# Altium footprint library common standard footprint.PcbLib: 18 footprints (part 1 of 2)
Each footprint in its own frame and in the unit in brackets; x right, y up, seen from the top. Pads: shape width x height; smd on the part's side, far side on the other; paste and mask are expansions set on the pad; w line width, h text height; cw(c..) or ccw(c..) is an arc to the next point about the centre after c.
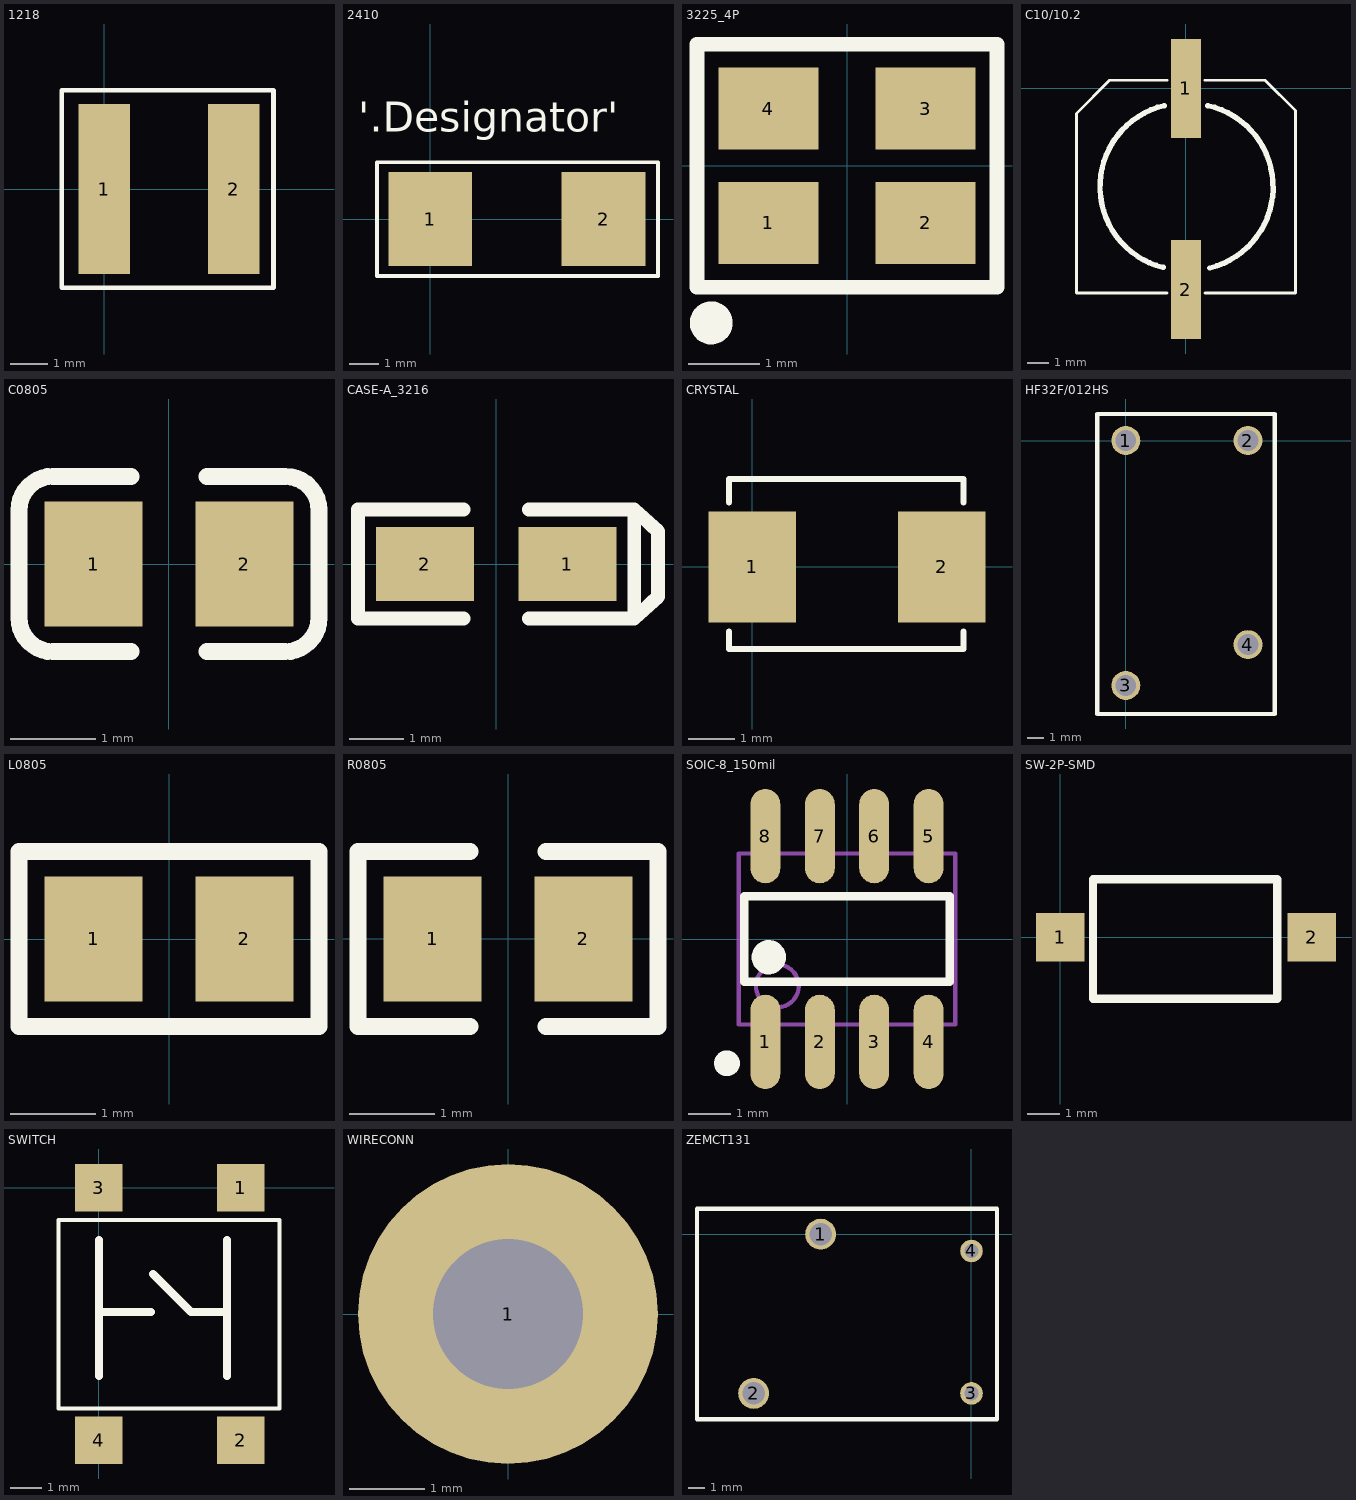
[diagram p0: the footprints below, top view; thin cyan lines are the x and y axes]

## 1218 [mm]
pads (2):
  rect 1.4x4.6 smd: 1(0,0) 2(3.5,0)
Top Overlay:
  lines w0.127: -1.143,-2.667 -1.143,2.667 4.572,2.667 4.572,-2.667 -1.143,-2.667

## 2410 [mm] "通常用于保险丝"
height 2.16
pads (2):
  rect 2.8x3.15 smd: 1(0,0) 2(5.8,0)
Top Overlay:
  lines w0.127: -1.778,-1.905 7.62,-1.905 7.62,1.905 -1.778,1.905 -1.778,-1.905
  text "'.Designator'" at -2.413,2.921 h1

## 3225_4P [mm] "晶振"
pads (4):
  rect 1.4x1.15 smd: 1(-1.1,-0.8) 2(1.1,-0.8) 3(1.1,0.8) 4(-1.1,0.8)
Top Overlay:
  circle w0.3: c-1.9,-2.2 r0.15
  lines w0.203: -2.1,-1.7 -2.1,1.7 2.1,1.7 2.1,-1.7 -2.1,-1.7
3D body "User Library-3225-1.STEP": height 0.61, standoff 0, extent -1.6,-1.25 1.6,1.25

## C6.3/5.4 [mm]

## C10/10.2 [mm] "贴片电解电容"
pads (2):
  rect 1.4x4.6 smd: 1(0,0) 2(0,-9.363)
Top Overlay:
  lines w0.127: -0.889,-9.525 -5.1,-9.525 -5.1,-1.163 -3.556,0.381 -0.889,0.381 ; 0.889,-9.525 5.1,-9.525 5.1,-1.036 3.683,0.381 0.889,0.381
  lines w0.254: -1.067,-8.333 cw(c-0.127,-4.572) -1.008,-0.796 ; 1.016,-0.796 cw(c0.168,-4.588) 1.111,-8.358

## C0805 [mm]
pads (2):
  rect 1.16x1.47 smd: 1(-0.89,0) 2(0.89,0)
Top Overlay:
  lines w0.2: -0.45,-1.035 -1.37,-1.035 cw(c-1.37,-0.635) -1.77,-0.635 -1.77,0.635 cw(c-1.37,0.635) -1.37,1.035 -0.45,1.035 ; 0.45,-1.035 1.37,-1.035 ccw(c1.37,-0.635) 1.77,-0.635 1.77,0.635 ccw(c1.37,0.635) 1.37,1.035 0.45,1.035
3D body "User Library-0805 SMD Capacitor.STEP": height 0.77, standoff -0.01, extent -0.999,-0.625 1.001,0.625

## CASE-A_3216 [mm] "钽电容"
pads (2):
  rect 1.8x1.35 smd: 1(1.31,0) 2(-1.31,0)
Top Overlay:
  lines w0.254: -0.6,-1.002 -2.537,-1.002 -2.537,1.002 -0.6,1.002 ; 0.6,-1.002 2.537,-1.002 ; 0.6,1.002 2.537,1.002 ; 2.537,-1.002 2.537,1.002 ; 2.537,-1.002 2.973,-0.6 2.973,0.6 2.537,1.002
3D body "User Library-AVX_ACASE.STEP": height 1.71, standoff 0, extent -1.7,-0.84 1.7,0.84

## CRYSTAL [mm] "5x3.2x1.2mm"
pads (2):
  rect 1.9x2.4 smd: 1(0,0) 2(4.1,0)
Top Overlay:
  lines w0.127: -0.508,-1.397 -0.508,-1.778 4.572,-1.778 4.572,-1.397 ; -0.508,1.397 -0.508,1.905 4.572,1.905 4.572,1.397

## HF32F/012HS [mm] "RELAY"
pads (4):
  round 1.8 hole 1.3: 1(0,0) 2(7.6,0) 3(0,-15.24) 4(7.6,-12.7)
Top Overlay:
  lines w0.254: -1.778,-17.018 -1.778,1.651 9.271,1.651 9.271,-17.018 -1.778,-17.018

## L0805 [mm]
pads (2):
  rect 1.16x1.47 smd: 1(-0.89,0) 2(0.89,0)
Top Overlay:
  lines w0.2: -1.77,-1.035 1.77,-1.035 1.77,1.035 -1.77,1.035 -1.77,-1.035
3D body "L0805.STEP": height 0.6, standoff -0.02, extent -1.022,-0.637 1.028,0.638

## R0805 [mm]
pads (2):
  rect 1.16x1.47 smd: 1(-0.89,0) 2(0.89,0)
Top Overlay:
  lines w0.2: -0.45,-1.035 -1.77,-1.035 -1.77,1.035 -0.45,1.035 ; 0.45,-1.035 1.77,-1.035 1.77,1.035 0.45,1.035
3D body "User Library-R_0805.STEP": height 0.49, standoff -0.01, extent -0.997,-0.625 1.003,0.625

## SOIC-8_150mil [mm]
pads (8):
  oval 0.7x2.2 smd: 1(-1.905,-2.4) 2(-0.635,-2.4) 3(0.635,-2.4) 4(1.905,-2.4) 5(1.905,2.4) 6(0.635,2.4) 7(-0.635,2.4) 8(-1.905,2.4)
Top Overlay:
  circle w0.3: c-2.8,-2.9 r0.15
  circle w0.4: c-1.825,-0.425 r0.2
  lines w0.2: -2.4,-1 2.4,-1 2.4,1 -2.4,1 -2.4,-1
Mechanical 13:
  circle w0.1: c-1.625,-1.095 r0.5
  lines w0.1: -2.525,-1.995 2.525,-1.995 2.525,1.995 -2.525,1.995 -2.525,-1.995

## SW-2P-SMD [mm] "6.1x3.7x2.5"
pads (2):
  rect 1.5x1.5 smd: 1(0,0) 2(7.8,0)
Top Overlay:
  lines w0.254: 1.016,-1.905 6.731,-1.905 6.731,1.795 1.016,1.795 1.016,-1.905

## SWITCH [mm] "6*6*5"
pads (4):
  rect 1.5x1.5 smd: 1(4.5,0) 2(4.5,-8) 3(0,0) 4(0,-8)
Top Overlay:
  lines w0.127: -1.27,-6.985 5.715,-6.985 5.715,-1.143 5.715,-1.016 -1.27,-1.016 -1.27,-6.985
  lines w0.254: 0,-5.969 0,-1.651 ; 0,-3.937 1.143,-3.937 1.651,-3.937 ; 1.714,-2.73 2.921,-3.937 4.064,-3.937 ; 4.064,-5.969 4.064,-1.651

## WIRECONN [mm]
pads (1):
  round 4 hole 2: 1(0,0)

## ZEMCT131 [mm]
pads (4):
  round 1.85 hole 1.35: 1(-9,0) 2(-13,-9.5)
  round 1.35 hole 0.85: 3(0,-9.5) 4(0,-1)
Top Overlay:
  lines w0.254: -16.383,-11.049 -16.383,1.524 1.524,1.524 1.524,-11.049 -16.383,-11.049